# Altium schematic symbol library FH-00148.SchLib: 2 symbols
Pins are listed as number, name and electrical type; pins without a type are passive.

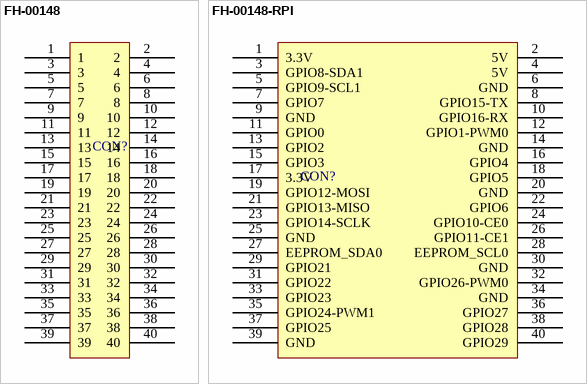
[diagram p0: symbols FH-00148 to FH-00148-RPI]

## FH-00148
designator CON?  (value not drawn)
footprint FH-00148
pins: 1, 2, 3, 4, 5, 6, 7, 8, 9, 10, 11, 12, 13, 14, 15, 16, 17, 18, 19, 20, 21, 22, 23, 24, 25, 26, 27, 28, 29, 30, 31, 32, 33, 34, 35, 36, 37, 38, 39, 40

## FH-00148-RPI
designator CON?  (value not drawn)
footprint FH-00148
pins: 1 3.3V, 2 5V, 3 GPIO8-SDA1, 4 5V, 5 GPIO9-SCL1, 6 GND, 7 GPIO7, 8 GPIO15-TX, 9 GND, 10 GPIO16-RX, 11 GPIO0, 12 GPIO1-PWM0, 13 GPIO2, 14 GND, 15 GPIO3, 16 GPIO4, 17 3.3V, 18 GPIO5, 19 GPIO12-MOSI, 20 GND, 21 GPIO13-MISO, 22 GPIO6, 23 GPIO14-SCLK, 24 GPIO10-CE0, 25 GND, 26 GPIO11-CE1, 27 EEPROM_SDA0, 28 EEPROM_SCL0, 29 GPIO21, 30 GND, 31 GPIO22, 32 GPIO26-PWM0, 33 GPIO23, 34 GND, 35 GPIO24-PWM1, 36 GPIO27, 37 GPIO25, 38 GPIO28, 39 GND, 40 GPIO29